# Altium footprint library Разное_discrete.PcbLib: 51 footprints (part 4 of 4)
Each footprint in its own frame and in the unit in brackets; x right, y up, seen from the top. Pads: shape width x height; smd on the part's side, far side on the other; paste and mask are expansions set on the pad; w line width, h text height; cw(c..) or ccw(c..) is an arc to the next point about the centre after c.
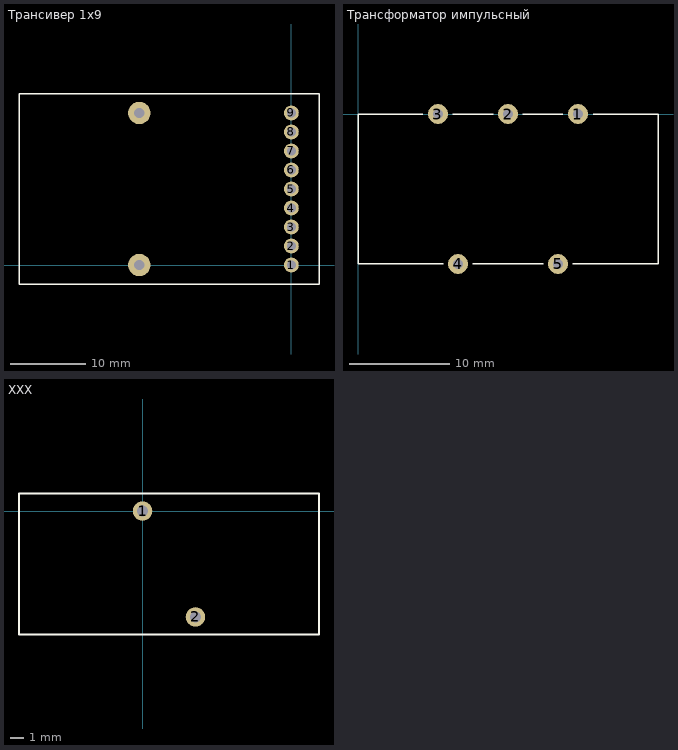
[diagram p3: the footprints below, top view; thin cyan lines are the x and y axes]

## Трансивер 1х9 [mm]
height 10
pads (11):
  round 2 hole 1.2 unplated: 1(0,0) 2(0,2.54) 3(0,5.08) 4(0,7.62) 5(0,10.16) 6(0,12.7) 7(0,15.24) 8(0,17.78) 9(0,20.32)
  round 3 hole 1.4 unplated: ""(-20.32,0) ""(-20.32,20.32)
Top Overlay:
  lines w0.2: -36.4,-2.5 -36.4,-2.1 -36.4,22.8 -36.34,22.86 -20.32,22.86 0,22.86 3.64,22.86 3.7,22.8 3.7,21.4 3.7,0 3.7,-2.54 0,-2.54 -20.32,-2.54 -36.36,-2.54 -36.4,-2.5
3D body: height 10, standoff 0, extent -36.322,-2.54 3.556,22.86

## Трансформатор импульсный [mm]
height 40
pads (5):
  round 2 hole 1: 1(22,0) 2(15,0) 3(8,0) 4(10,-15) 5(20,-15)
Top Overlay:
  lines w0.15: 6.5,0 0,0 0,-15 8.5,-15 ; 9.5,0 13.5,0 ; 11.5,-15 18.5,-15 ; 16.5,0 20.5,0 ; 21.5,-15 30,-15 30,0 23.5,0
3D body: height 37, standoff 0, extent 0,-15 30,0

## ХХХ [mm] "Дросель намотаный"
height 18
pads (2):
  round 1.4 hole 0.8: 1(0,0) 2(3.81,-7.62)
Top Overlay:
  lines w0.15: -8.89,-8.89 -1.27,-8.89 12.7,-8.89 12.7,1.27 -1.27,1.27 -8.89,1.27 -8.89,-8.89
3D body: height 17, standoff 0.1, extent -8.382,-7.62 12.192,0